# Altium schematic symbol library SymbolesSchema.SchLib: 44 symbols
Pins are listed as number, name and electrical type; pins without a type are passive.

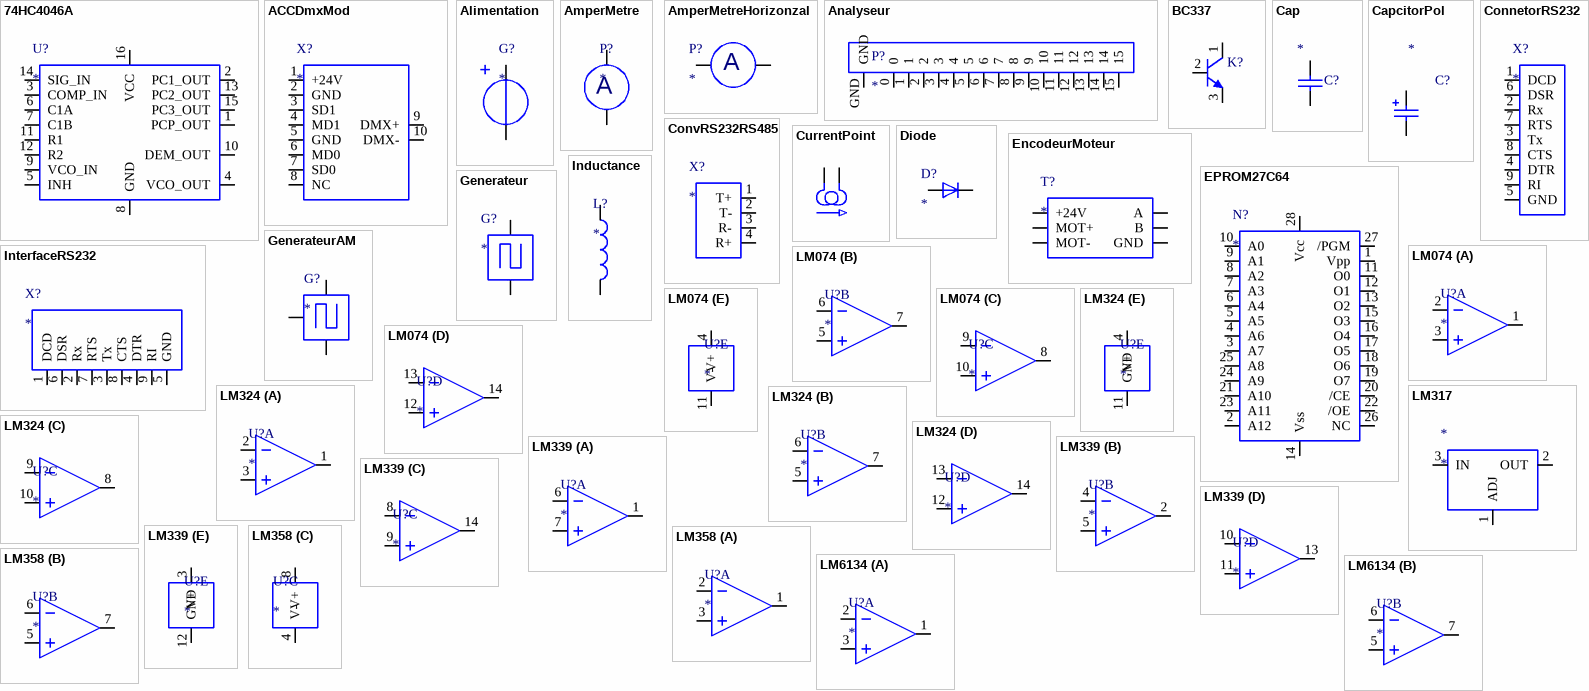
[diagram p0: symbols 74HC4046A to LM6134]

## 74HC4046A
designator U?
pins: 1 PCP_OUT, 2 PC1_OUT, 3 COMP_IN, 4 VCO_OUT, 5 INH, 6 C1A, 7 C1B, 8 GND, 9 VCO_IN, 10 DEM_OUT, 11 R1, 12 R2, 13 PC2_OUT, 14 SIG_IN, 15 PC3_OUT, 16 VCC

## ACCDmxMod
designator X?
pins: 1 +24V, 2 GND, 3 SD1, 4 MD1, 5 GND, 6 MD0, 7 SD0, 8 NC, 9 DMX+, 10 DMX-

## Alimentation
designator G?
pins: 21, 21

## AmperMetre
designator P?
pins: 21, 21
text: A

## AmperMetreHorizonzal
designator P?
pins: 21, 21
text: A

## Analyseur
designator P?
pins: 0, 1, 2, 3, 4, 5, 6, 7, 8, 9, 10, 11, 12, 13, 14, 15, GND

## BC337
designator K?
PartNumber: BC337; Manufacturer: On Semiconductor; Note1: 0; Polarity: NPN; Packing: Bulk Box; IC Continuous (A): 0.8; ComponentLink1URL: http://www.onsemi.com/; PackageDescription: 3-Pin Transistor Outline, Body 4.825 x 3.685 mm, Pitch 1.27 mm; ComponentLink3URL: http://www.onsemi.cn/pub_link/Collateral/2N6426-D.PDF; ComponentLink1Description: Manufacturer URL; PackageVersion: Rev. AM; PackageReference: TO-92-3-29-11_AM_SL; DatasheetVersion: Rev. 8; ComponentLink2URL: http://www.onsemi.com/pub_link/Collateral/BC337-D.PDF; RoHS: FALSE; ComponentLink3Description: Package Specification; Mounting Technology: Through Hole; ComponentLink2Description: Datasheet
footprint ONSC-TO-92-3-29-11 (TO, 3-Leads, Body Dia 4.7mm, Pitch 1.27mm)
pins: 1 C, 2 B, 3 E

## Cap
designator C?
Published: 8-Jun-2000; LatestRevisionDate: 17-Jul-2002; LatestRevisionNote: Re-released for DXP Platform.; PackageReference: RAD-0.3; Publisher: Altium Limited; PackageDescription: Radial Cap, Thru-Hole; 2 Leads; 0.3 in Pin Spacing
footprint RAD-0.3 (Radial Cap, Thru-Hole; 2 Leads; 0.3 in Pin Spacing)
simulation model CAP (Capacitor)
signal-integrity model Cap
footprint C0805 (Chip Capacitor, Body 2.0x1.3mm, IPC High Density)
pins: 1, 2

## CapcitorPol
designator C?
Published: 8-Jun-2000; LatestRevisionDate: 17-Jul-2002; LatestRevisionNote: Re-released for DXP Platform.; PackageReference: RAD-0.3; Publisher: Altium Limited; PackageDescription: Radial Cap, Thru-Hole; 2 Leads; 0.3 in Pin Spacing
footprint CAP_EEEHD1A101AP
pins: 1 POS, 2 NEG

## ConnetorRS232
designator X?
pins: 1 DCD, 2 Rx, 3 Tx, 4 DTR, 5 GND, 6 DSR, 7 RTS, 8 CTS, 9 RI

## ConvRS232RS485
designator X?
pins: 1 T+, 2 T-, 3 R-, 4 R+

## CurrentPoint
designator ?  (value not drawn)
pins: 15, 15

## Diode
designator D?
pins: 15, 16

## EncodeurMoteur
designator T?
pins: 3 +24V, 3 MOT+, 3 MOT-, 3 A, 3 B, 3 GND

## EPROM27C64
designator N?
pins: 1 Vpp, 2 A12, 3 A7, 4 A6, 5 A5, 6 A4, 7 A3, 8 A2, 9 A1, 10 A0, 11 O0, 12 O1, 13 O2, 14 Vss, 15 O3, 16 O4, 17 O5, 18 O6, 19 O7, 20 /CE, 21 A10, 22 /OE, 23 A11, 24 A9, 25 A8, 26 NC, 27 /PGM, 28 Vcc

## Generateur
designator G?
pins: 23, 24

## GenerateurAM
designator G?
pins: 23, 24, 24

## Inductance
designator L?
pins: ?1, ?2

## InterfaceRS232
designator X?
pins: 1 DCD, 2 Rx, 3 Tx, 4 DTR, 5 GND, 6 DSR, 7 RTS, 8 CTS, 9 RI

## LM074
designator U?
part A pins: 1 OUTA, 2 NEG, 3 POS
part B pins: 5 POS, 6 NEG, 7 OUTB
part C pins: 8 OUTB, 9 NEG, 10 POS
part D pins: 12 POS, 13 NEG, 14 OUTB
part E pins: 4 V+, 11 V-

## LM317
designator *
pins: 1 ADJ, 2 OUT, 3 IN

## LM324
designator U?
part A pins: 1 OUTA, 2 NEG, 3 POS
part B pins: 5 POS, 6 NEG, 7 OUTB
part C pins: 8 OUTB, 9 NEG, 10 POS
part D pins: 12 POS, 13 NEG, 14 OUTB
part E pins: 4 V+, 11 GND

## LM339
designator U?
part A pins: 1 OUTA, 6 NEG, 7 POS
part B pins: 2 OUTB, 4 NEG, 5 POS
part C pins: 8 NEG, 9 POS, 14 OUTB
part D pins: 10 NEG, 11 POS, 13 OUTB
part E pins: 3 V+, 12 GND

## LM358
designator U?
part A pins: 1 OUTA, 2 NEG, 3 POS
part B pins: 5 POS, 6 NEG, 7 OUTB
part C pins: 4 V-, 8 V+

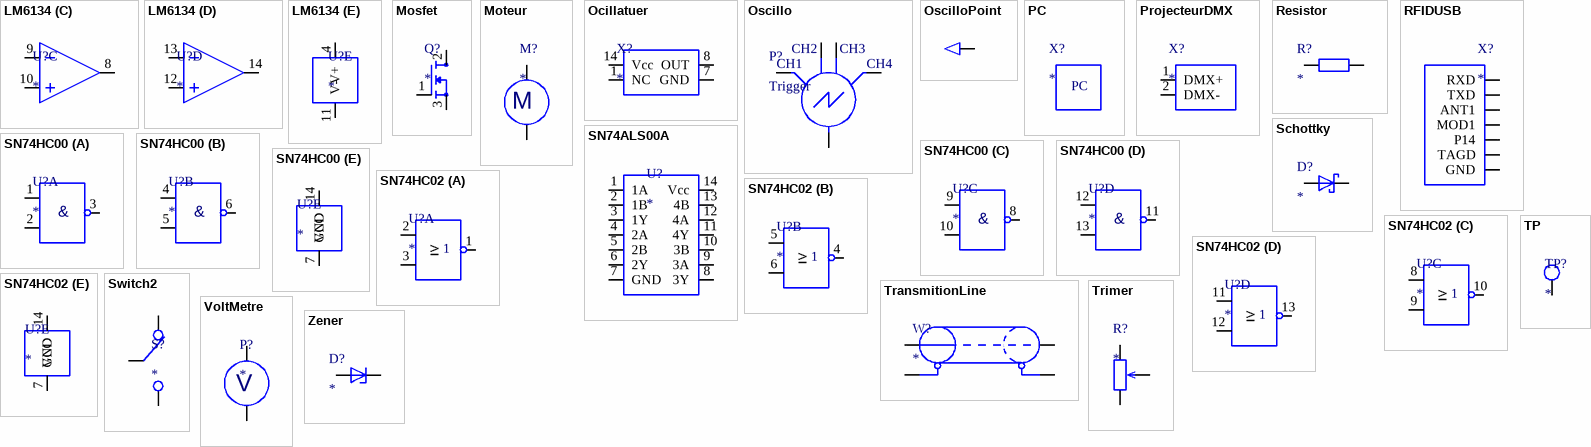
[diagram p1: symbols LM6134 to Zener]

## LM6134
designator U?
part A pins: 1 OUTA, 2 NEG, 3 POS
part B pins: 5 POS, 6 NEG, 7 OUTB
part C pins: 8 OUTB, 9 NEG, 10 POS
part D pins: 12 POS, 13 NEG, 14 OUTB
part E pins: 4 V+, 11 V-

## Mosfet
designator Q?
pins: 1 G, 2 S, 3 D

## Moteur
designator M?
pins: 21, 21
text: M

## Ocillatuer
designator X?
pins: 1 NC, 7 GND, 8 OUT, 14 Vcc

## Oscillo
designator P?, comment Trigger
pins: 17, 18, 19, 20, 21
text: CH2; CH3; CH1; CH4

## OscilloPoint
designator ?  (value not drawn)
pins: 15

## PC
designator X?

## ProjecteurDMX
designator X?
pins: 1 DMX+, 2 DMX-

## Resistor
designator R?
pins: 15, 16

## RFIDUSB
designator X?
pins: 1 RXD, 1 TXD, 1 ANT1, 1 MOD1, 1 P14, 1 TAGD, 1 GND

## Schottky
designator D?
pins: 15, 16

## SN74ALS00A
designator U?
pins: 1 1A, 2 1B, 3 1Y, 4 2A, 5 2B, 6 2Y, 7 GND, 8 3Y, 9 3A, 10 3B, 11 4Y, 12 4A, 13 4B, 14 Vcc

## SN74HC00
designator U?
part A pins: 1 19, 2 17, 3 18
part B pins: 4 19, 5 17, 6 18
part C pins: 8 17, 9 18, 10 19
part D pins: 11 17, 12 18, 13 19
part E pins: 7 GND, 14 VCC
part A text: &
part B text: &
part C text: &
part D text: &

## SN74HC02
designator U?
part A pins: 1 19, 2 17, 3 18
part B pins: 4 19, 5 17, 6 18
part C pins: 8 17, 9 18, 10 19
part D pins: 11 17, 12 18, 13 19
part E pins: 7 GND, 14 VCC

## Switch2
designator S?
pins: 15, 15, 15

## TP
designator TP?
pins: 15

## TransmitionLine
designator W?
pins: 15, 15, 15, 16

## Trimer
designator R?
pins: 15, 15, 16

## VoltMetre
designator P?
pins: 21, 21
text: V

## Zener
designator D?
pins: 15, 16